# Altium footprint library CAPS.PcbLib: 166 footprints (part 1 of 11)
Each footprint in its own frame and in the unit in brackets; x right, y up, seen from the top. Pads: shape width x height; smd on the part's side, far side on the other; paste and mask are expansions set on the pad; w line width, h text height; cw(c..) or ccw(c..) is an arc to the next point about the centre after c.
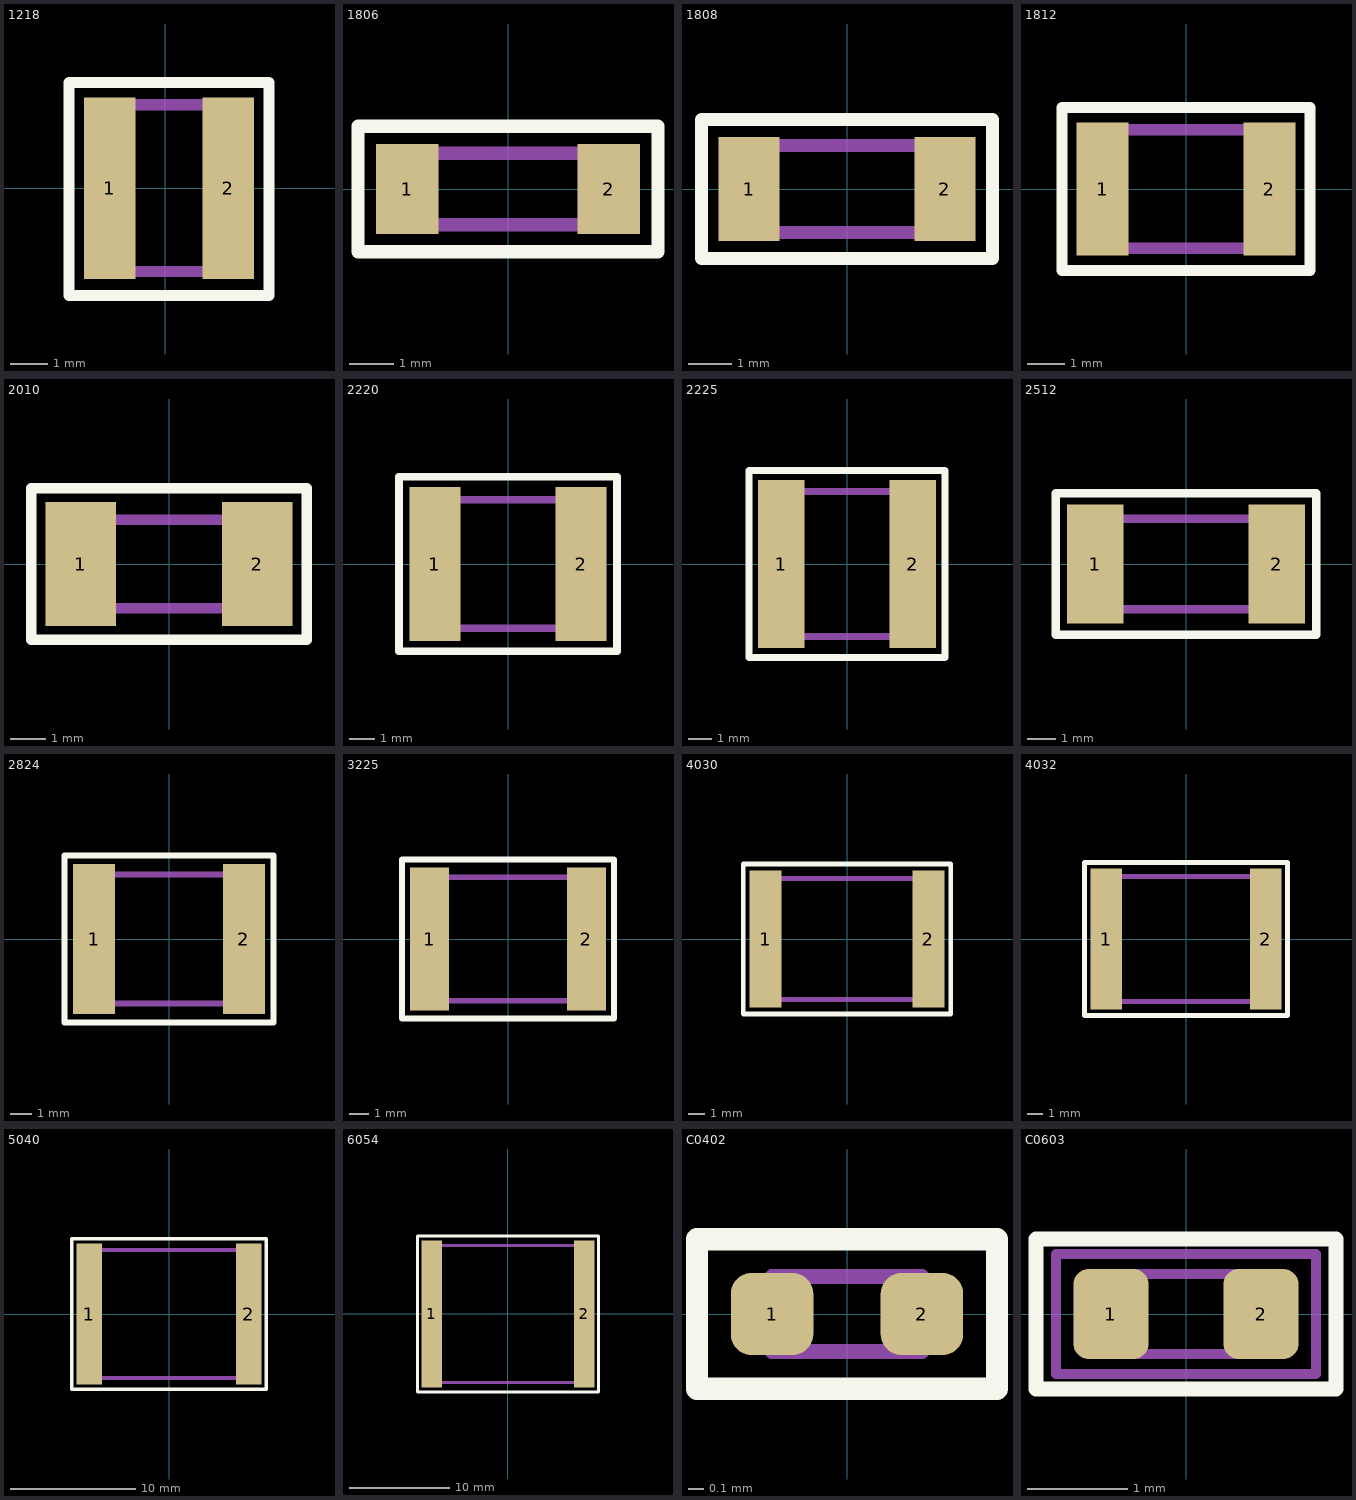
[diagram p0: the footprints below, top view; thin cyan lines are the x and y axes]

## 1218 [mm]
pads (2):
  rect 1.4x4.9 smd: 1(-1.5,0) 2(1.7,0)
Top Overlay:
  lines w0.3: -2.6,-2.9 2.8,-2.9 2.8,2.85 -2.6,2.85 -2.6,-2.9
Mechanical 1:
  lines w0.3: -1,-2.25 -1,2.25 ; 1.2,-2.25 1.2,2.25 ; -1.5,-2.25 -1.5,2.25 1.7,2.25 1.7,-2.25 -1.5,-2.25

## 1806 [mm]
pads (2):
  rect 1.4x2 smd: 1(-2.25,0) 2(2.25,0)
Top Overlay:
  lines w0.3: -3.35,-1.4 -3.35,1.4 3.35,1.4 3.35,0.5 3.35,-1.4 2.45,-1.4 -3.35,-1.4
Mechanical 1:
  lines w0.3: -1.75,-0.8 -1.75,0.8 ; 1.75,-0.8 1.75,0.8 ; -2.25,-0.8 -2.25,0.8 2.25,0.8 2.25,-0.8 -2.25,-0.8

## 1808 [mm]
pads (2):
  rect 1.4x2.4 smd: 1(-2.25,0) 2(2.25,0)
Top Overlay:
  lines w0.3: -3.35,-1.6 -3.35,1.6 3.35,1.6 3.35,-1.6 -3.35,-1.6
Mechanical 1:
  lines w0.3: -1.75,-1 -1.75,1 ; 1.75,-1 1.75,1 ; -2.25,-1 -2.25,1 2.25,1 2.25,-1 -2.25,-1

## 1812 [mm]
pads (2):
  rect 1.4x3.6 smd: 1(-2.25,0) 2(2.25,0)
Top Overlay:
  lines w0.3: -3.35,-2.2 3.35,-2.2 3.35,2.2 -3.35,2.2 -3.35,-2.2
Mechanical 1:
  lines w0.3: -1.75,-1.6 -1.75,1.6 ; 1.75,-1.6 1.75,1.6 ; -2.25,-1.6 2.25,-1.6 2.25,1.6 -2.25,1.6 -2.25,-1.6

## 2010 [mm]
pads (2):
  rect 2x3.5 smd: 1(-2.5,0) 2(2.5,0)
Top Overlay:
  lines w0.3: -3.9,-2.15 -3.9,2.15 3.9,2.15 3.9,-2.15 -3.9,-2.15
Mechanical 1:
  lines w0.3: -2,-1.25 -2,1.25 ; 2,-1.25 2,1.25 ; -2.5,-1.25 -2.5,1.25 2.5,1.25 2.5,-1.25 -2.5,-1.25

## 2220 [mm]
pads (2):
  rect 2x6 smd: 1(-2.85,0) 2(2.85,0)
Top Overlay:
  lines w0.3: -4.25,-3.4 4.25,-3.4 4.25,3.4 -4.25,3.4 -4.25,-3.4
Mechanical 1:
  lines w0.3: -2.35,-2.5 -2.35,2.5 ; 2.35,-2.5 2.35,2.5 ; -2.85,-2.5 -2.85,2.5 2.85,2.5 2.85,-2.5 -2.85,-2.5

## 2225 [mm]
pads (2):
  rect 2x7.3 smd: 1(-2.85,0) 2(2.85,0)
Top Overlay:
  lines w0.3: -4.25,-4.05 -4.25,4.05 4.25,4.05 4.25,-4.05 -4.25,-4.05
Mechanical 1:
  lines w0.3: -2.35,-3.15 -2.35,3.15 ; 2.35,-3.15 2.35,3.15 ; -2.85,-3.15 2.85,-3.15 2.85,3.15 -2.85,3.15 -2.85,-3.15

## 2512 [mm]
pads (2):
  rect 2x4.2 smd: 1(-3.2,0) 2(3.2,0)
Top Overlay:
  lines w0.3: -4.6,-2.5 -4.6,2.5 4.6,2.5 4.6,-2.5 -4.6,-2.5
Mechanical 1:
  lines w0.3: -2.7,-1.6 -2.7,1.6 ; 2.7,-1.6 2.7,1.6 ; -3.2,-1.6 -3.2,1.6 3.2,1.6 3.2,-1.6 -3.2,-1.6

## 2824 [mm]
pads (2):
  rect 2x7.1 smd: 1(-3.55,0) 2(3.55,0)
Top Overlay:
  lines w0.3: -4.95,-3.95 -4.95,3.95 4.95,3.95 4.95,-3.95 -4.95,-3.95
Mechanical 1:
  lines w0.3: -3.05,-3.05 -3.05,3.05 ; 3.05,-3.05 3.05,3.05 ; -3.55,-3.05 -3.55,3.05 3.55,3.05 3.55,-3.05 -3.55,-3.05

## 3225 [mm]
pads (2):
  rect 2x7.3 smd: 1(-4,0) 2(4,0)
Top Overlay:
  lines w0.3: -5.4,-4.05 -5.4,4.05 5.4,4.05 5.4,-4.05 -5.4,-4.05
Mechanical 1:
  lines w0.3: -3.5,-3.15 -3.5,3.15 ; 3.5,-3.15 3.5,3.15 ; -4,-3.15 -4,3.15 4,3.15 4,-3.15 -4,-3.15

## 4030 [mm]
pads (2):
  rect 2x8.6 smd: 1(-5.1,0) 2(5.1,0)
Top Overlay:
  lines w0.3: -6.5,-4.7 -6.5,2.6 -6.5,4.7 6.5,4.7 6.5,3.8 6.5,-4.7 1.5,-4.7 -6.5,-4.7
Mechanical 1:
  lines w0.3: -4.6,-3.8 -4.6,3.8 ; 4.6,-3.8 4.6,3.8 ; -5.1,-3.8 -5.1,3.8 5.1,3.8 5.1,-3.8 -5.1,-3.8

## 4032 [mm]
pads (2):
  rect 2x9 smd: 1(-5.1,0) 2(5.1,0)
Top Overlay:
  lines w0.3: -6.5,-4.9 6.5,-4.9 6.5,4.9 -6.5,4.9 -6.5,-4.9
Mechanical 1:
  lines w0.3: -4.6,-4 -4.6,4 ; 4.6,-4 4.6,4 ; -5.1,-4 5.1,-4 5.1,4 -5.1,4 -5.1,-4

## 5040 [mm]
pads (2):
  rect 2x11.2 smd: 1(-6.35,0) 2(6.35,0)
Top Overlay:
  lines w0.3: -7.75,-6 7.75,-6 7.75,6 -7.75,6 -7.75,-6
Mechanical 1:
  lines w0.3: -5.85,-5.1 -5.85,5.1 ; 5.85,-5.1 5.85,5.1 ; -6.35,-5.1 6.35,-5.1 6.35,5.1 -6.35,5.1 -6.35,-5.1

## 6054 [mm]
pads (2):
  rect 2x14.7 smd: 1(-7.6,0) 2(7.6,0)
Top Overlay:
  lines w0.3: -9,-7.75 -9,7.75 9,7.75 9,-7.75 -9,-7.75
Mechanical 1:
  lines w0.3: -7.1,-6.85 -7.1,6.85 ; 7.1,-6.85 7.1,6.85 ; -7.6,-6.85 -7.6,6.85 7.6,6.85 7.6,-6.85 -7.6,-6.85

## C0402 [mm]
height 0.5
pads (2):
  rrect50% 0.55x0.55 smd: 1(-0.5,0) 2(0.5,0)
Top Overlay:
  lines w0.15: -1,-0.5 -1,0.5 1,0.5 1,-0.5 -1,-0.5
Mechanical 1:
  lines w0.1: -0.3,-0.25 -0.3,0.25 ; 0.3,-0.25 0.3,0.25 ; -0.5,-0.25 0.5,-0.25 0.5,0.25 -0.5,0.25 -0.5,-0.25
Mechanical 5:
  lines w0.1: -1,-0.5 1,-0.5 1,0.5 -1,0.5 -1,-0.5
  text ".Designator" at -0.8,-0.3 h0.6
Mechanical 6:
  lines w0.1: -1,-0.5 -1,0.5 1,0.5 1,-0.5 -1,-0.5
  text ".Comment" at -0.8,-0.3 h0.6
3D body: height 0.48, standoff 0.03, extent -0.475,-0.225 0.475,0.225
3D body: height 0.5, standoff 0, extent 0.3,-0.25 0.5,0.25
3D body: height 0.5, standoff 0, extent -0.5,-0.25 -0.3,0.25

## C0603 [mm]
height 0.8
pads (2):
  rrect40% 0.75x0.9 smd: 1(-0.75,0) 2(0.75,0)
Top Overlay:
  lines w0.15: -1.5,-0.75 -1.5,0.75 1.5,0.75 1.5,-0.75 -1.5,-0.75
Mechanical 1:
  lines w0.1: -0.5,-0.4 -0.5,0.4 ; 0.5,-0.4 0.5,0.4 ; -0.8,-0.4 -0.8,0.4 0.8,0.4 0.8,-0.4 -0.8,-0.4
Mechanical 5:
  lines w0.1: -1.3,-0.6 1.3,-0.6 1.3,0.6 -1.3,0.6 -1.3,-0.6
  text ".Designator" at -1.1,-0.4 h0.8
Mechanical 6:
  lines w0.1: -1.3,-0.6 -1.3,0.6 1.3,0.6 1.3,-0.6 -1.3,-0.6
  text ".Comment" at -1.1,-0.4 h0.8
3D body: height 0.8, standoff 0, extent -0.8,-0.4 -0.5,0.4
3D body: height 0.77, standoff 0.03, extent -0.65,-0.375 0.65,0.375
3D body: height 0.8, standoff 0, extent 0.5,-0.4 0.8,0.4